# Altium schematic symbol library USB.SchLib: 7 symbols
Pins are listed as number, name and electrical type; pins without a type are passive.

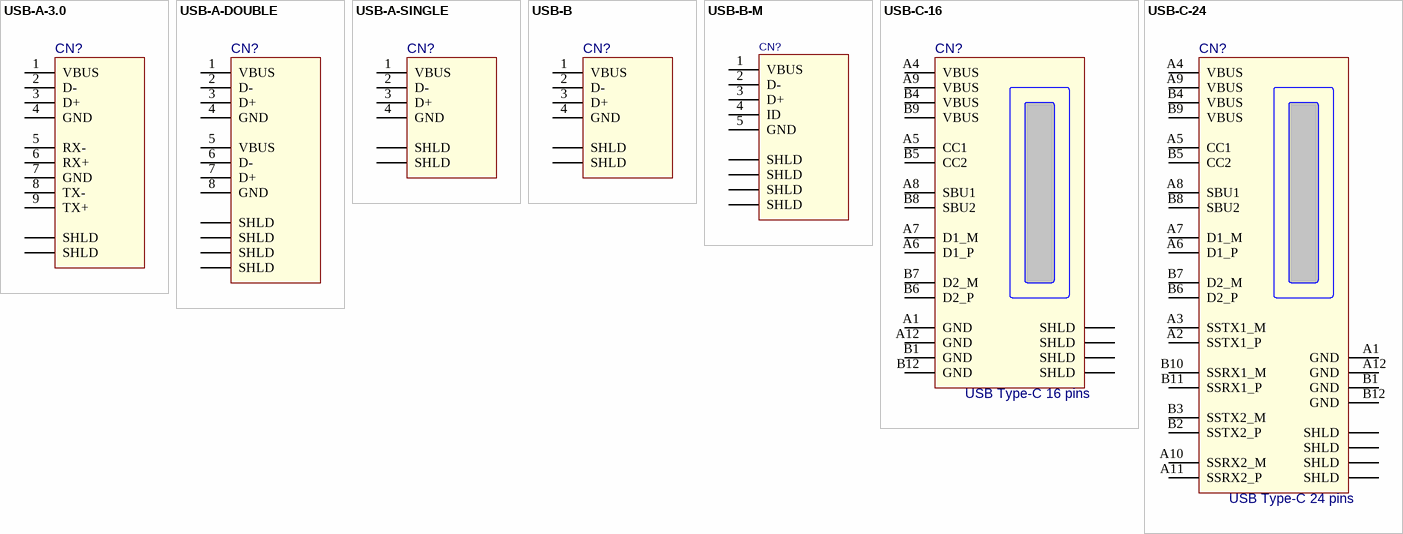
[diagram p0: symbols USB-A-3.0 to USB-C-24]

## USB-A-3.0
designator CN?  (value not drawn)
USB Type-A 3.0; Value: USBA-G3.0
footprint USB-3-A-SINGLE
pins: 1 VBUS, 2 D-, 3 D+, 4 GND, 5 RX-, 6 RX+, 7 GND, 8 TX-, 9 TX+, 10 SHLD, 11 SHLD

## USB-A-DOUBLE
designator CN?, comment USB Type-A Double  (value not drawn)
Value: KLS1-153-W
footprint USB-A-DOUBLE
pins: 1 VBUS, 2 D-, 3 D+, 4 GND, 5 VBUS, 6 D-, 7 D+, 8 GND, 9 SHLD, 10 SHLD, 11 SHLD, 12 SHLD

## USB-A-SINGLE
designator CN?, comment USB Type-A Single  (value not drawn)
Value: KLS1-181A
footprint USB-A-SINGLE
pins: 1 VBUS, 2 D-, 3 D+, 4 GND, 5 SHLD, 6 SHLD

## USB-B
designator CN?  (value not drawn)
USB Type-B; Value: KLS1-151-W
footprint USB-B
footprint USB-B_SMD
pins: 1 VBUS, 2 D-, 3 D+, 4 GND, 5 SHLD, 6 SHLD

## USB-B-M
designator CN?, comment USB Type-B mini  (value not drawn)
Value: KLS1-229-5FD
footprint USB-B-SMD-MINI
pins: 1 VBUS, 2 D-, 3 D+, 4 ID, 5 GND, 6 SHLD, 7 SHLD, 8 SHLD, 9 SHLD, MH1 hidden, MH2 hidden

## USB-C-16
designator CN?, comment USB Type-C 16 pins
Value: USB Type-C
footprint USB-C_SMD-16P (USB Type-C 16 pin)
footprint USB-C-16P (USB Type-C 16 pin)
pins: 1 SHLD, 2 SHLD, 3 SHLD, 4 SHLD, A1 GND, A4 VBUS, A5 CC1, A6 D1_P, A7 D1_M, A8 SBU1, A9 VBUS, A12 GND, B1 GND, B4 VBUS, B5 CC2, B6 D2_P, B7 D2_M, B8 SBU2, B9 VBUS, B12 GND

## USB-C-24
designator CN?, comment USB Type-C 24 pins
Value: USB Type-C
footprint USB-C-24P (USB Type-C 24 pin)
pins: 1 SHLD, 2 SHLD, 3 SHLD, 4 SHLD, A1 GND, A2 SSTX1_P, A3 SSTX1_M, A4 VBUS, A5 CC1, A6 D1_P, A7 D1_M, A8 SBU1, A9 VBUS, A10 SSRX2_M, A11 SSRX2_P, A12 GND, B1 GND, B2 SSTX2_P, B3 SSTX2_M, B4 VBUS, B5 CC2, B6 D2_P, B7 D2_M, B8 SBU2, B9 VBUS, B10 SSRX1_M, B11 SSRX1_P, B12 GND